# Altium footprint library 68714014522.PcbLib: 1 footprints
Each footprint in its own frame and in the unit in brackets; x right, y up, seen from the top. Pads: shape width x height; smd on the part's side, far side on the other; paste and mask are expansions set on the pad; w line width, h text height; cw(c..) or ccw(c..) is an arc to the next point about the centre after c.
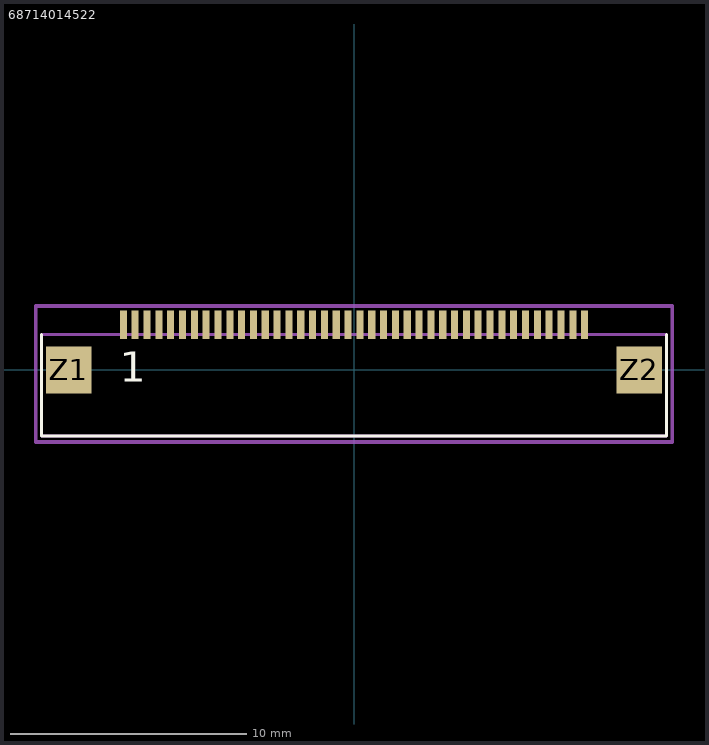
[diagram p0: the footprint, top view; thin cyan lines are the x and y axes]

## 68714014522 [mm]
pads (42):
  rect 0.3x1.2 smd: 1(-9.75,1.9) 2(-9.25,1.9) 3(-8.75,1.9) 4(-8.25,1.9) 5(-7.75,1.9) 6(-7.25,1.9) 7(-6.75,1.9) 8(-6.25,1.9) 9(-5.75,1.9) 10(-5.25,1.9) 11(-4.75,1.9) 12(-4.25,1.9) 13(-3.75,1.9) 14(-3.25,1.9) 15(-2.75,1.9) 16(-2.25,1.9) 17(-1.75,1.9) 18(-1.25,1.9) 19(-0.75,1.9) 20(-0.25,1.9) 21(0.25,1.9) 22(0.75,1.9) 23(1.25,1.9) 24(1.75,1.9) 25(2.25,1.9) 26(2.75,1.9) 27(3.25,1.9) 28(3.75,1.9) 29(4.25,1.9) 30(4.75,1.9) 31(5.25,1.9) 32(5.75,1.9) 33(6.25,1.9) 34(6.75,1.9) 35(7.25,1.9) 36(7.75,1.9) 37(8.25,1.9) 38(8.75,1.9) 39(9.25,1.9) 40(9.75,1.9)
  rect 1.938x1.984 smd: Z1(-12.061,0) Z2(12.061,0)
Top Overlay:
  lines w0.127: -13.2,1.5 -13.2,-2.8 13.2,-2.8 13.2,1.5
  text "1" at -9.906,-0.508 h1.27
Mechanical 13:
  lines w0.127: -13.2,-2.8 -13.2,1.5 13.2,1.5 13.2,-2.8 -13.2,-2.8
  text "1" at -9.906,-0.508 h1.27
Mechanical 15:
  lines w0.152: -13.45,-3.05 13.45,-3.05 13.45,2.7 -13.45,2.7 -13.45,-3.05
3D body "40Pin0.5mmFFC.stp": height 2.12, standoff 0.02, extent -13.2,-3.054 13.2,2.046